# EAGLE library part DIGITAL_POT_AD5242 (library lib)
Digital Potentiometer AD5242BRUZ1M Digital Potentiometer ICs Dual 8-Bit I2C RDAC
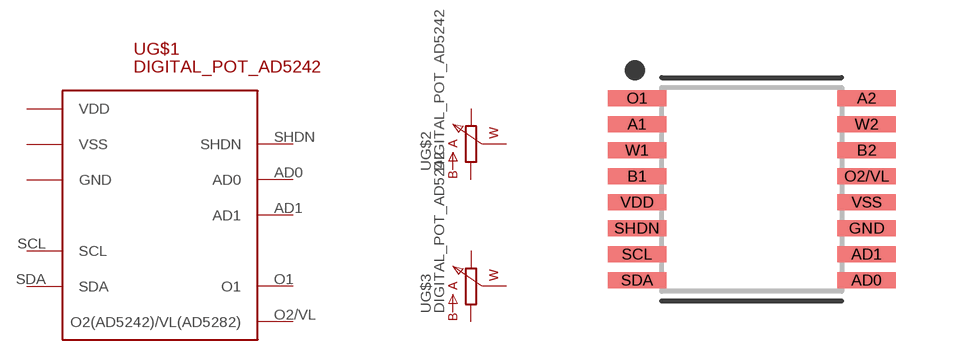
[diagram p5: symbol with the pads of SOP65P640X120-16N; footprint SOP65P640X120-16N]

Designator prefix U; gates G$1=AD5242/AD5282 G$2=POTENTIOMETER_DIGITAL G$3=POTENTIOMETER_DIGITAL

## DIGITAL_POT_AD5242AD5242/AD5282 (LINK: https://eu.mouser.com/ProductDetail/Analog-Devices/AD5242BRUZ1M/?qs=NmRFExCfTkH%2F0h4IfL5ZXA%3D%3D; MPN: AD5242BRUZ1M; SUPPLIER: Mouser)  [SOP65P640X120-16N]
A1  G$2:A  pas
A2  G$3:A  pas
AD0  G$1:AD0  in
AD1  G$1:AD1  in
B1  G$2:B  pas
B2  G$3:B  pas
GND  G$1:GND  pwr
O1  G$1:O1  out
O2/VL  G$1:O2(AD5242)/VL(AD5282)
SCL  G$1:SCL  in
SDA  G$1:SDA
SHDN  G$1:SHDN  in
VDD  G$1:VDD  pwr
VSS  G$1:VSS  pwr
W1  G$2:W  pas
W2  G$3:W  pas

## Footprint SOP65P640X120-16N (pad centres in mm)
16-SOP, 0.65 mm pitch, 6.40 mm span, 5.00 X 4.40 X 1.20 mm body 16-pin SOP package with 0.65 mm pitch, 6.40 mm span with body size 5.00 X 4.40 X 1.20 mm
smd 1.469 x 0.407: A1 -2.871,1.625; A2 2.871,2.275; AD0 2.871,-2.275; AD1 2.871,-1.625; B1 -2.871,0.325; B2 2.871,0.975; GND 2.871,-0.975; O1 -2.871,2.275; O2/VL 2.871,0.325; SCL -2.871,-1.625; SDA -2.871,-2.275; SHDN -2.871,-0.975; VDD -2.871,-0.325; VSS 2.871,-0.325; W1 -2.871,0.975; W2 2.871,1.625